# EAGLE library part EFM32TG842F32 (library EnergyMicro)
EFM32TG842F32 Tiny Microcontroller in 10mm x 10mm QFP64 package
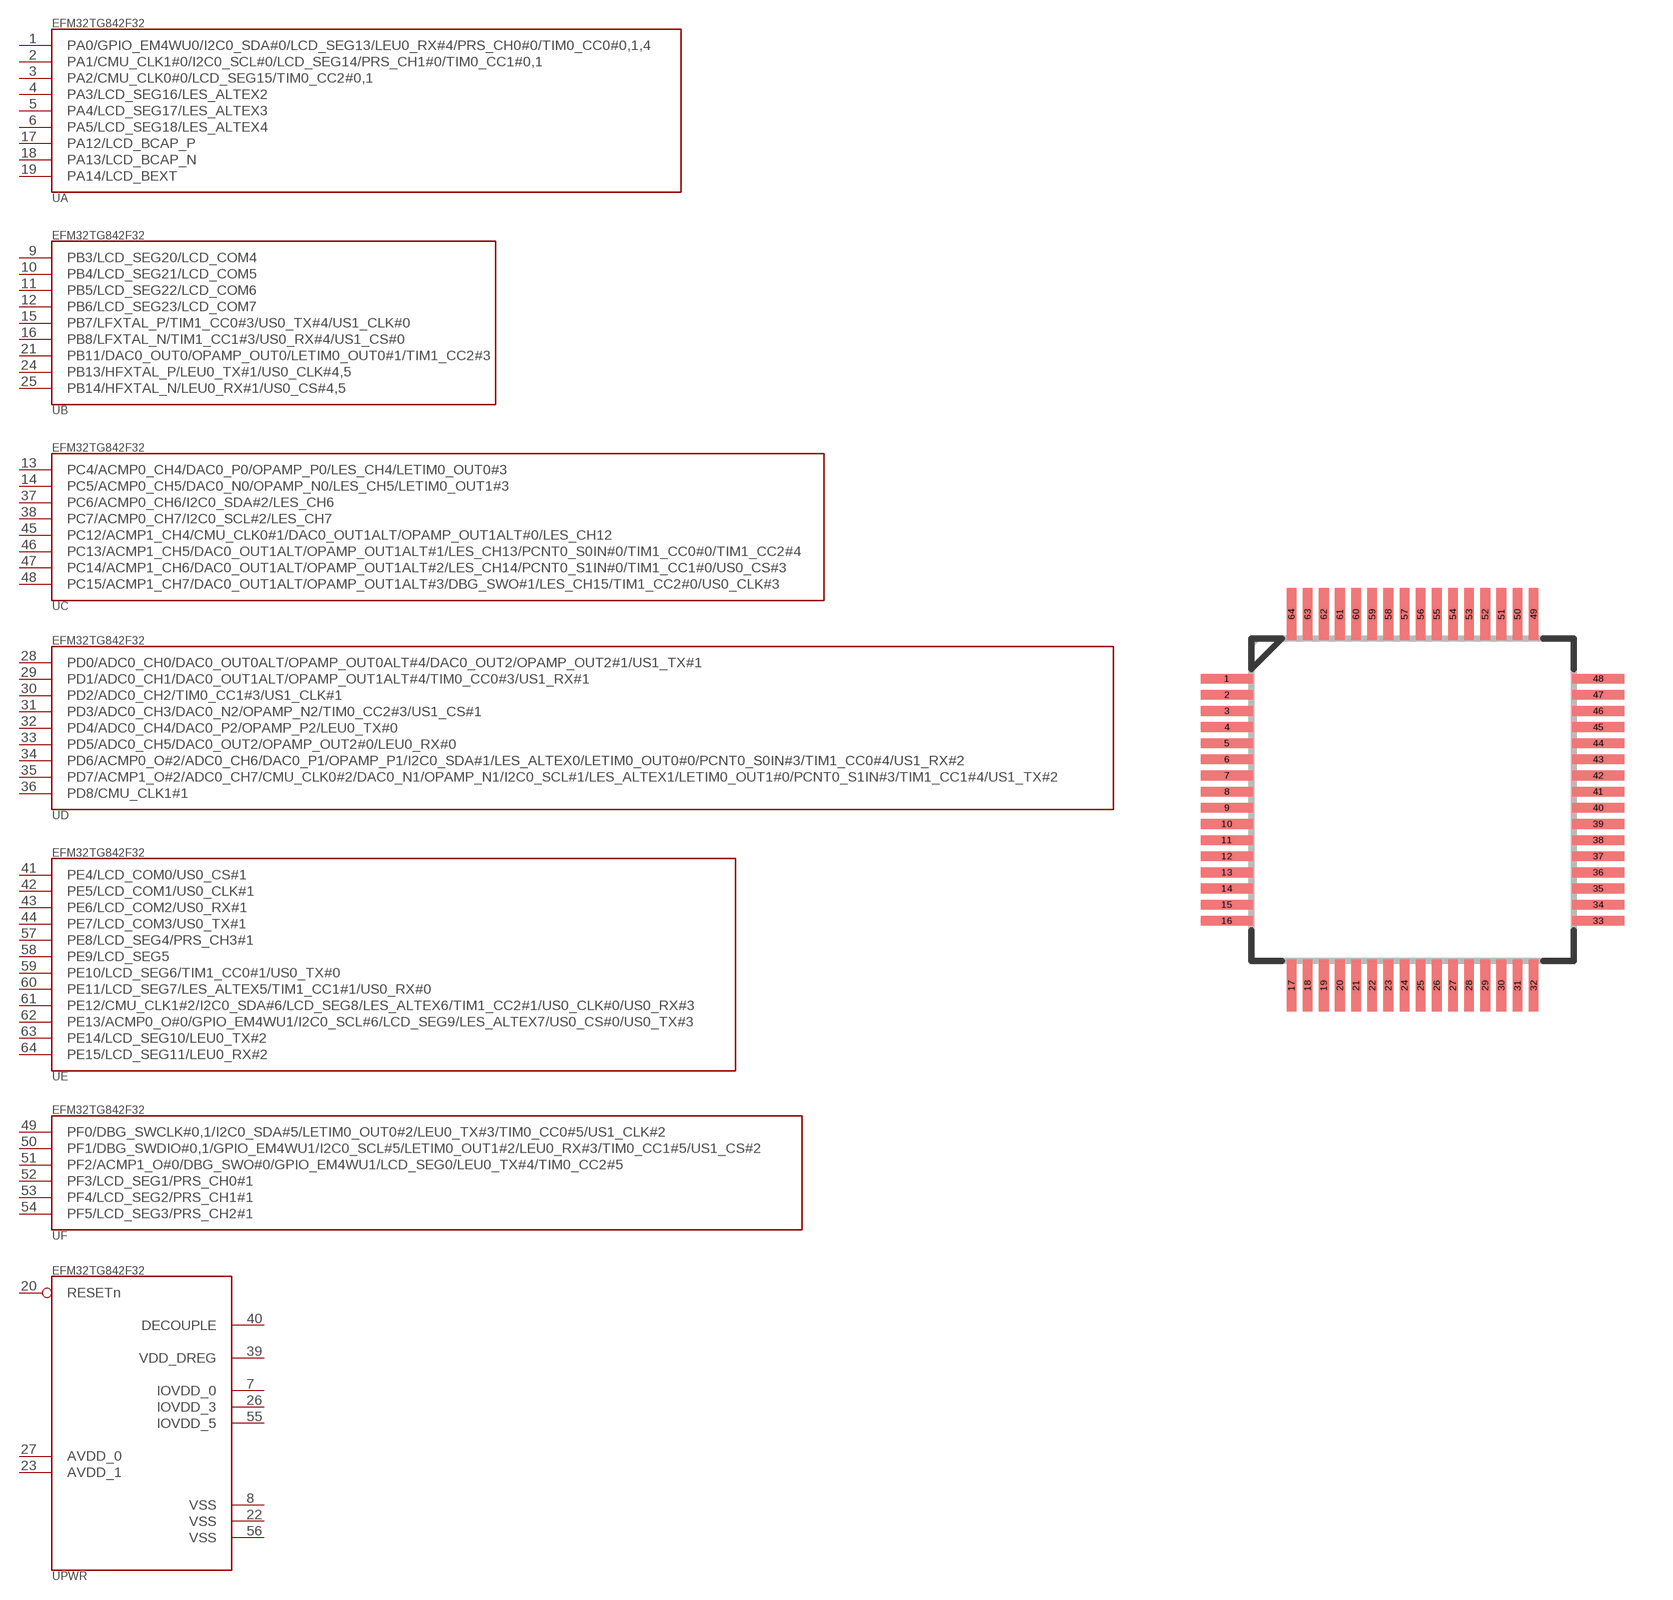
[diagram p142: symbol with the pads of QFP64; footprint QFP64]

Designator prefix -; gates A=EFM32TG842F32_A B=EFM32TG842F32_B C=EFM32TG842F32_C D=EFM32TG842F32_D E=EFM32TG842F32_E F=EFM32TG842F32_F PWR=EFM32TG842F32_PWR

## EFM32TG842F32  [QFP64]
1  A:PA0/GPIO_EM4WU0/I2C0_SDA#0/LCD_SEG13/LEU0_RX#4/PRS_CH0#0/TIM0_CC0#0,1,4
2  A:PA1/CMU_CLK1#0/I2C0_SCL#0/LCD_SEG14/PRS_CH1#0/TIM0_CC1#0,1
3  A:PA2/CMU_CLK0#0/LCD_SEG15/TIM0_CC2#0,1
4  A:PA3/LCD_SEG16/LES_ALTEX2
5  A:PA4/LCD_SEG17/LES_ALTEX3
6  A:PA5/LCD_SEG18/LES_ALTEX4
7  PWR:IOVDD_0  pwr
8  PWR:VSS  pwr
9  B:PB3/LCD_SEG20/LCD_COM4
10  B:PB4/LCD_SEG21/LCD_COM5
11  B:PB5/LCD_SEG22/LCD_COM6
12  B:PB6/LCD_SEG23/LCD_COM7
13  C:PC4/ACMP0_CH4/DAC0_P0/OPAMP_P0/LES_CH4/LETIM0_OUT0#3
14  C:PC5/ACMP0_CH5/DAC0_N0/OPAMP_N0/LES_CH5/LETIM0_OUT1#3
15  B:PB7/LFXTAL_P/TIM1_CC0#3/US0_TX#4/US1_CLK#0
16  B:PB8/LFXTAL_N/TIM1_CC1#3/US0_RX#4/US1_CS#0
17  A:PA12/LCD_BCAP_P
18  A:PA13/LCD_BCAP_N
19  A:PA14/LCD_BEXT
20  PWR:RESETn  pas
21  B:PB11/DAC0_OUT0/OPAMP_OUT0/LETIM0_OUT0#1/TIM1_CC2#3
22  PWR:VSS  pwr
23  PWR:AVDD_1  pwr
24  B:PB13/HFXTAL_P/LEU0_TX#1/US0_CLK#4,5
25  B:PB14/HFXTAL_N/LEU0_RX#1/US0_CS#4,5
26  PWR:IOVDD_3  pwr
27  PWR:AVDD_0  pwr
28  D:PD0/ADC0_CH0/DAC0_OUT0ALT/OPAMP_OUT0ALT#4/DAC0_OUT2/OPAMP_OUT2#1/US1_TX#1
29  D:PD1/ADC0_CH1/DAC0_OUT1ALT/OPAMP_OUT1ALT#4/TIM0_CC0#3/US1_RX#1
30  D:PD2/ADC0_CH2/TIM0_CC1#3/US1_CLK#1
31  D:PD3/ADC0_CH3/DAC0_N2/OPAMP_N2/TIM0_CC2#3/US1_CS#1
32  D:PD4/ADC0_CH4/DAC0_P2/OPAMP_P2/LEU0_TX#0
33  D:PD5/ADC0_CH5/DAC0_OUT2/OPAMP_OUT2#0/LEU0_RX#0
34  D:PD6/ACMP0_O#2/ADC0_CH6/DAC0_P1/OPAMP_P1/I2C0_SDA#1/LES_ALTEX0/LETIM0_OUT0#0/PCNT0_S0IN#3/TIM1_CC0#4/US1_RX#2
35  D:PD7/ACMP1_O#2/ADC0_CH7/CMU_CLK0#2/DAC0_N1/OPAMP_N1/I2C0_SCL#1/LES_ALTEX1/LETIM0_OUT1#0/PCNT0_S1IN#3/TIM1_CC1#4/US1_TX#2
36  D:PD8/CMU_CLK1#1
37  C:PC6/ACMP0_CH6/I2C0_SDA#2/LES_CH6
38  C:PC7/ACMP0_CH7/I2C0_SCL#2/LES_CH7
39  PWR:VDD_DREG  pwr
40  PWR:DECOUPLE  pwr
41  E:PE4/LCD_COM0/US0_CS#1
42  E:PE5/LCD_COM1/US0_CLK#1
43  E:PE6/LCD_COM2/US0_RX#1
44  E:PE7/LCD_COM3/US0_TX#1
45  C:PC12/ACMP1_CH4/CMU_CLK0#1/DAC0_OUT1ALT/OPAMP_OUT1ALT#0/LES_CH12
46  C:PC13/ACMP1_CH5/DAC0_OUT1ALT/OPAMP_OUT1ALT#1/LES_CH13/PCNT0_S0IN#0/TIM1_CC0#0/TIM1_CC2#4
47  C:PC14/ACMP1_CH6/DAC0_OUT1ALT/OPAMP_OUT1ALT#2/LES_CH14/PCNT0_S1IN#0/TIM1_CC1#0/US0_CS#3
48  C:PC15/ACMP1_CH7/DAC0_OUT1ALT/OPAMP_OUT1ALT#3/DBG_SWO#1/LES_CH15/TIM1_CC2#0/US0_CLK#3
49  F:PF0/DBG_SWCLK#0,1/I2C0_SDA#5/LETIM0_OUT0#2/LEU0_TX#3/TIM0_CC0#5/US1_CLK#2
50  F:PF1/DBG_SWDIO#0,1/GPIO_EM4WU1/I2C0_SCL#5/LETIM0_OUT1#2/LEU0_RX#3/TIM0_CC1#5/US1_CS#2
51  F:PF2/ACMP1_O#0/DBG_SWO#0/GPIO_EM4WU1/LCD_SEG0/LEU0_TX#4/TIM0_CC2#5
52  F:PF3/LCD_SEG1/PRS_CH0#1
53  F:PF4/LCD_SEG2/PRS_CH1#1
54  F:PF5/LCD_SEG3/PRS_CH2#1
55  PWR:IOVDD_5  pwr
56  PWR:VSS  pwr
57  E:PE8/LCD_SEG4/PRS_CH3#1
58  E:PE9/LCD_SEG5
59  E:PE10/LCD_SEG6/TIM1_CC0#1/US0_TX#0
60  E:PE11/LCD_SEG7/LES_ALTEX5/TIM1_CC1#1/US0_RX#0
61  E:PE12/CMU_CLK1#2/I2C0_SDA#6/LCD_SEG8/LES_ALTEX6/TIM1_CC2#1/US0_CLK#0/US0_RX#3
62  E:PE13/ACMP0_O#0/GPIO_EM4WU1/I2C0_SCL#6/LCD_SEG9/LES_ALTEX7/US0_CS#0/US0_TX#3
63  E:PE14/LCD_SEG10/LEU0_TX#2
64  E:PE15/LCD_SEG11/LEU0_RX#2

## Footprint QFP64 (pad centres in mm)
smd 1.6 x 0.3: 1 -5.75,3.75; 2 -5.75,3.25; 3 -5.75,2.75; 4 -5.75,2.25; 5 -5.75,1.75; 6 -5.75,1.25; 7 -5.75,0.75; 8 -5.75,0.25; 9 -5.75,-0.25; 10 -5.75,-0.75; 11 -5.75,-1.25; 12 -5.75,-1.75; 13 -5.75,-2.25; 14 -5.75,-2.75; 15 -5.75,-3.25; 16 -5.75,-3.75; 33 5.75,-3.75; 34 5.75,-3.25; 35 5.75,-2.75; 36 5.75,-2.25; 37 5.75,-1.75; 38 5.75,-1.25; 39 5.75,-0.75; 40 5.75,-0.25; 41 5.75,0.25; 42 5.75,0.75; 43 5.75,1.25; 44 5.75,1.75; 45 5.75,2.25; 46 5.75,2.75; 47 5.75,3.25; 48 5.75,3.75
smd 0.3 x 1.6: 17 -3.75,-5.75; 18 -3.25,-5.75; 19 -2.75,-5.75; 20 -2.25,-5.75; 21 -1.75,-5.75; 22 -1.25,-5.75; 23 -0.75,-5.75; 24 -0.25,-5.75; 25 0.25,-5.75; 26 0.75,-5.75; 27 1.25,-5.75; 28 1.75,-5.75; 29 2.25,-5.75; 30 2.75,-5.75; 31 3.25,-5.75; 32 3.75,-5.75; 49 3.75,5.75; 50 3.25,5.75; 51 2.75,5.75; 52 2.25,5.75; 53 1.75,5.75; 54 1.25,5.75; 55 0.75,5.75; 56 0.25,5.75; 57 -0.25,5.75; 58 -0.75,5.75; 59 -1.25,5.75; 60 -1.75,5.75; 61 -2.25,5.75; 62 -2.75,5.75; 63 -3.25,5.75; 64 -3.75,5.75